# Altium schematic symbol library SCH - POWER - LINEAR VREG - TI LM2941NGN.SchLib: 1 symbol
Pins are listed as number, name and electrical type; pins without a type are passive.

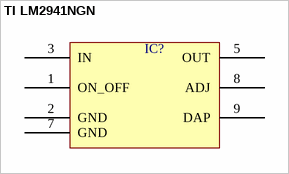
[diagram p0: symbol TI LM2941NGN]

## TI LM2941NGN
designator IC?  (value not drawn)
pins: 1 ON_OFF, 2 GND, 3 IN, 5 OUT, 7 GND, 8 ADJ, 9 DAP